# Altium footprint library 3-644615-6.PcbLib: 1 footprints
Each footprint in its own frame and in the unit in brackets; x right, y up, seen from the top. Pads: shape width x height; smd on the part's side, far side on the other; paste and mask are expansions set on the pad; w line width, h text height; cw(c..) or ccw(c..) is an arc to the next point about the centre after c.
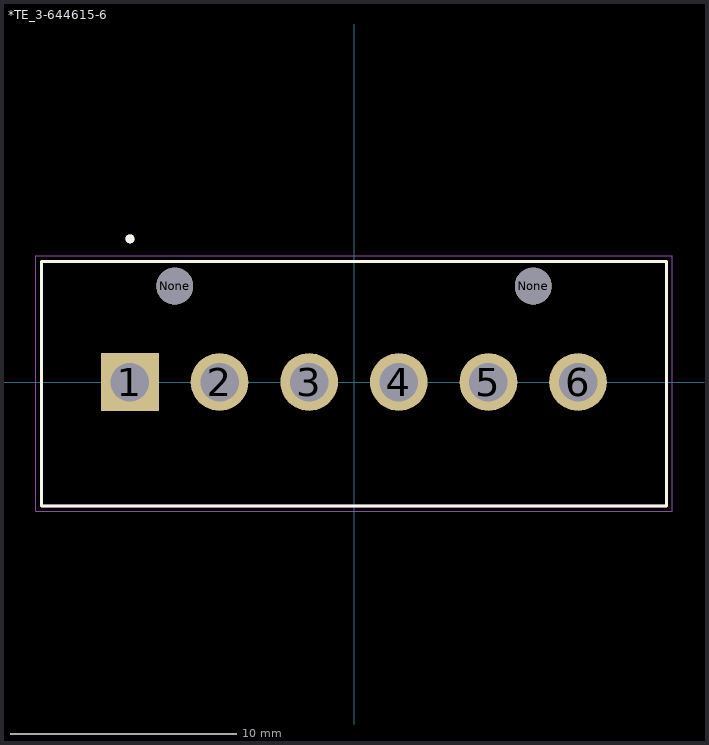
[diagram p0: the footprint, top view; thin cyan lines are the x and y axes]

## *TE_3-644615-6 [mm]
pads (8):
  rect 2.55x2.55 hole 1.7: 1(-9.9,0)
  round 2.55 hole 1.7: 2(-5.94,0) 3(-1.98,0) 4(1.98,0) 5(5.94,0) 6(9.9,0)
  round 1.63 hole 1.63 unplated: None(-7.92,4.24) None(7.92,4.24)
Top Overlay:
  circle w0.2: c-9.9,6.33 r0.1
  lines w0.127: -13.81,-5.47 -13.81,5.33 13.81,5.33 13.81,-5.47 -13.81,-5.47
Mechanical 4:
  circle w0.2: c-9.9,6.33 r0.1
  circle w0.2: c-9.9,6.33 r0.1
  lines w0.127: -13.81,-5.47 -13.81,5.33 ; -13.81,-5.47 13.81,-5.47 ; -13.81,-5.47 -13.81,5.33 ; -13.81,-5.47 13.81,-5.47 ; -13.81,5.33 13.81,5.33 ; -13.81,5.33 13.81,5.33 ; 13.81,-5.47 13.81,5.33 ; 13.81,-5.47 13.81,5.33
Mechanical 16:
  lines w0.05: -14.06,-5.72 -14.06,5.58 14.06,5.58 14.06,-5.72 -14.06,-5.72